# EAGLE library part JTAG_SWD (library U-ARM)
JTAG layout that Atmel used for Atmel-ICE which works for both AVR and ARM devices
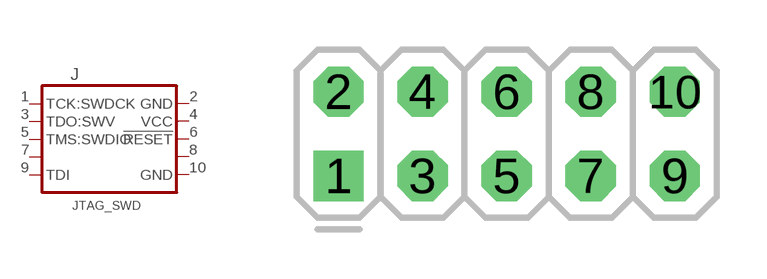
[diagram p1: symbol with the pads of JTAG; footprint JTAG]

Designator prefix J

## JTAG_SWD  [JTAG]
1  TCK:SWDCK
2  GND  pwr
3  TDO:SWV
4  VCC  pwr
5  TMS:SWDIO
6  !RESET
7  NC
8  TRST
9  TDI
10  GND  pwr

## Footprint JTAG (pad centres in mm)
drill 1.016 square: 1 0,0
drill 1.016 octagon: 2 0,2.54; 3 2.54,0; 4 2.54,2.54; 5 5.08,0; 6 5.08,2.54; 7 7.62,0; 8 7.62,2.54; 9 10.16,0; 10 10.16,2.54